# Altium schematic symbol library DMN3032LFDBQ.SchLib: 1 symbol
Pins are listed as number, name and electrical type; pins without a type are passive.

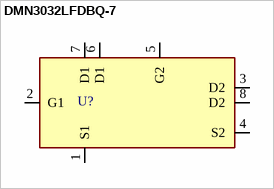
[diagram p0: symbol DMN3032LFDBQ-7]

## DMN3032LFDBQ-7
designator U?
Value: *; Mouser URL: https://www.mouser.pl/ProductDetail/Diodes-Incorporated/DMN3032LFDBQ-13?qs=icAhCOE9Tbh4ep37eQESbg%3D%3D; MPN: *; Supplier: *; SupplierPartNumber: DMN3032LFDBQ-13
footprint DMN3032LFDBQ-13
pins: 1 S1, 2 G1, 3 D2, 4 S2, 5 G2, 6 D1, 7 D1, 8 D2